# Altium footprint library PcbLib1.PcbLib: 4 footprints
Each footprint in its own frame and in the unit in brackets; x right, y up, seen from the top. Pads: shape width x height; smd on the part's side, far side on the other; paste and mask are expansions set on the pad; w line width, h text height; cw(c..) or ccw(c..) is an arc to the next point about the centre after c.
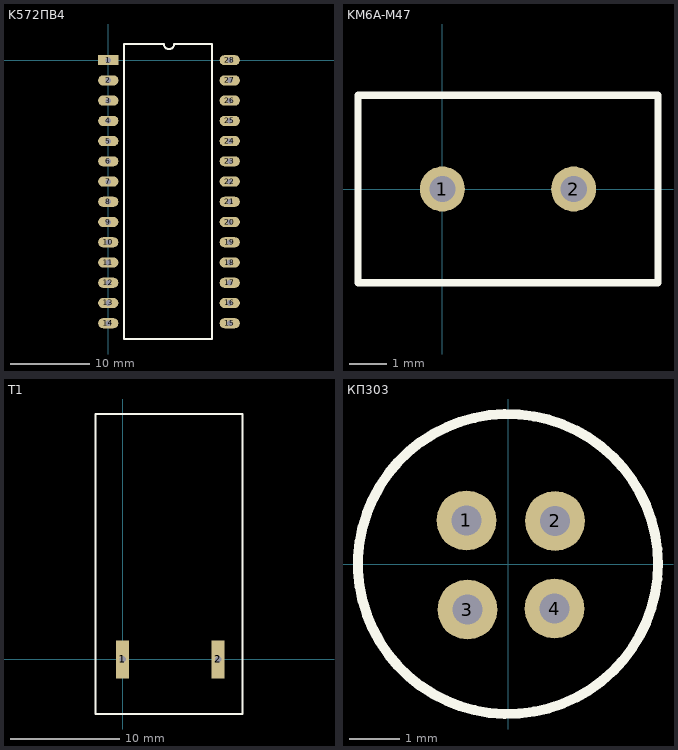
[diagram p0: the footprints below, top view; thin cyan lines are the x and y axes]

## K572ПВ4 [mm]
height 10
pads (28):
  rect 2.54x1.27 hole 0.7: 1(0,0)
  oval 2.54x1.27 hole 0.7: 2(0,-2.54) 3(0,-5.08) 4(0,-7.62) 5(0,-10.16) 6(0,-12.7) 7(0,-15.24) 8(0,-17.78) 9(0,-20.32) 10(0,-22.86) 11(0,-25.4) 12(0,-27.94) 13(0,-30.48) 14(0,-33.02) 15(15.24,-33.02) 16(15.24,-30.48) 17(15.24,-27.94) 18(15.24,-25.4) 19(15.24,-22.86) 20(15.24,-20.32) 21(15.24,-17.78) 22(15.24,-15.24) 23(15.24,-12.7) 24(15.24,-10.16) 25(15.24,-7.62) 26(15.24,-5.08) 27(15.24,-2.54) 28(15.24,0)
Top Overlay:
  lines w0.254: 2,-35 2,2 3.365,2.02 5.779,2.02 6.985,2.02 ccw(c7.62,2.02) 8.255,2.02 13,2.02 13,-35 2,-35

## KM6A-M47 [mm]
height 31
pads (2):
  round 1.2 hole 0.7: 1(0,0) 2(3.5,0)
Top Overlay:
  lines w0.2: -2.25,-2.5 0.25,-2.5 3.25,-2.5 5.75,-2.5 5.75,2.5 3.25,2.5 0.25,2.5 -2.25,2.5 -2.25,-2.5
3D body "КМ6А-М47.stp": height 9.51, standoff -19.99, extent -1.5,-3.25 5,3.25

## T1 [mm]
height 43.5
pads (2):
  rect 1.2x3.5 hole 0.6 square: 1(0,0)
  rect 1.2x3.5 hole 0.6 square mask+0.102: 2(8.75,0)
Top Overlay:
  lines w0.2: -2.5,-5 0,-5 11,-5 11,0 11,22.5 -2,22.5 -2.5,22.5 -2.5,0 -2.5,-5
3D body "T1.stp": height 36.15, standoff -3.5, extent -3.819,-5 12.751,22.5

## КП303 [mm]
height 25
pads (4):
  round 1.2 hole 0.6: 1(-0.83,0.87) 2(0.94,0.86) 3(-0.81,-0.91) 4(0.93,-0.89)
Top Overlay:
  circle w0.2: c0,0 r3